# EAGLE library part MT29FXG01 (library Railstars)
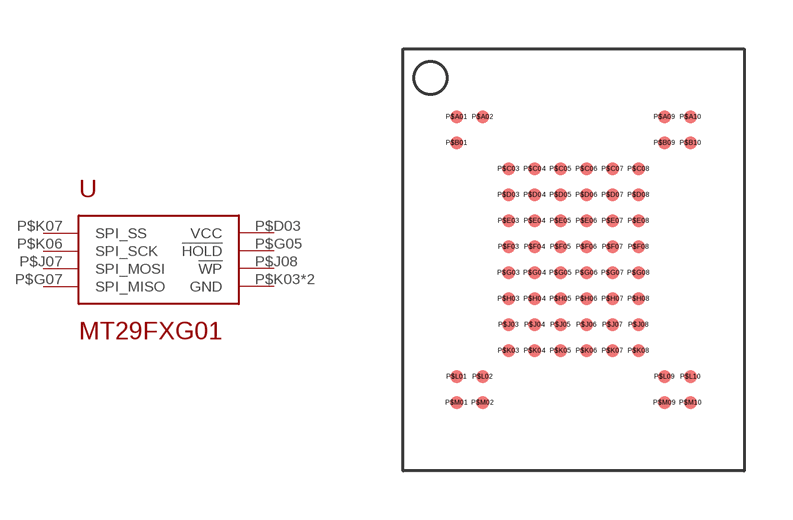
[diagram p20: symbol with the pads of VFBGA-63-HC; footprint VFBGA-63-HC]

Designator prefix -

## MT29FXG01  [VFBGA-63-HC]
P$D03  VCC
P$G05  !HOLD
P$G07  SPI_MISO
P$J07  SPI_MOSI
P$J08  !WP
P$K03  GND
P$K06  SPI_SCK
P$K07  SPI_SS
P$K08  GND

## Footprint VFBGA-63-HC (pad centres in mm)
smd 0.4 x 0.4: P$A01 -3.6,4.4; P$A02 -2.8,4.4; P$A09 2.8,4.4; P$A10 3.6,4.4; P$B01 -3.6,3.6; P$B09 2.8,3.6; P$B10 3.6,3.6; P$C03 -2,2.8; P$C04 -1.2,2.8; P$C05 -0.4,2.8; P$C06 0.4,2.8; P$C07 1.2,2.8; P$C08 2,2.8; P$D03 -2,2; P$D04 -1.2,2; P$D05 -0.4,2; P$D06 0.4,2; P$D07 1.2,2; P$D08 2,2; P$E03 -2,1.2; P$E04 -1.2,1.2; P$E05 -0.4,1.2; P$E06 0.4,1.2; P$E07 1.2,1.2; P$E08 2,1.2; P$F03 -2,0.4; P$F04 -1.2,0.4; P$F05 -0.4,0.4; P$F06 0.4,0.4; P$F07 1.2,0.4; P$F08 2,0.4; P$G03 -2,-0.4; P$G04 -1.2,-0.4; P$G05 -0.4,-0.4; P$G06 0.4,-0.4; P$G07 1.2,-0.4; P$G08 2,-0.4; P$H03 -2,-1.2; P$H04 -1.2,-1.2; P$H05 -0.4,-1.2; P$H06 0.4,-1.2; P$H07 1.2,-1.2; P$H08 2,-1.2; P$J03 -2,-2; P$J04 -1.2,-2; P$J05 -0.4,-2; P$J06 0.4,-2; P$J07 1.2,-2; P$J08 2,-2; P$K03 -2,-2.8; P$K04 -1.2,-2.8; P$K05 -0.4,-2.8; P$K06 0.4,-2.8; P$K07 1.2,-2.8; P$K08 2,-2.8; P$L01 -3.6,-3.6; P$L02 -2.8,-3.6; P$L09 2.8,-3.6; P$L10 3.6,-3.6; P$M01 -3.6,-4.4; P$M02 -2.8,-4.4; P$M09 2.8,-4.4; P$M10 3.6,-4.4